# Altium schematic symbol library GRM188R61A226ME15D.SchLib: 1 symbol
Pins are listed as number, name and electrical type; pins without a type are passive.

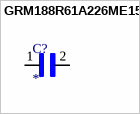
[diagram p0: symbol GRM188R61A226ME15D]

## GRM188R61A226ME15D
designator C?
SMD Capacitor X5R(EIA) with Capacitance: 22uF Tol. 20%. Rated Voltage: 10Vdc; MP: GRM188R61A226ME15D; Value: *; Availability: Unavailable; Package: None; Price: None
footprint CAPC1608X100N
pins: 1, 2